# Altium schematic symbol library Inductor.SchLib: 2 symbols
Pins are listed as number, name and electrical type; pins without a type are passive.

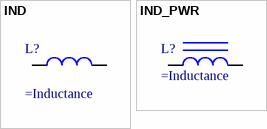
[diagram p0: symbols IND to IND_PWR]

## IND
designator L?  (value not drawn)
=description; Value: =Inductance
pins: 1, 2

## IND_PWR
designator L?  (value not drawn)
=description; Value: =Inductance
pins: 1, 2